# Altium integrated library Analog Devices Data Converters Analog-to-Digital Converters.IntLib: 2400 symbols (part 58 of 338)
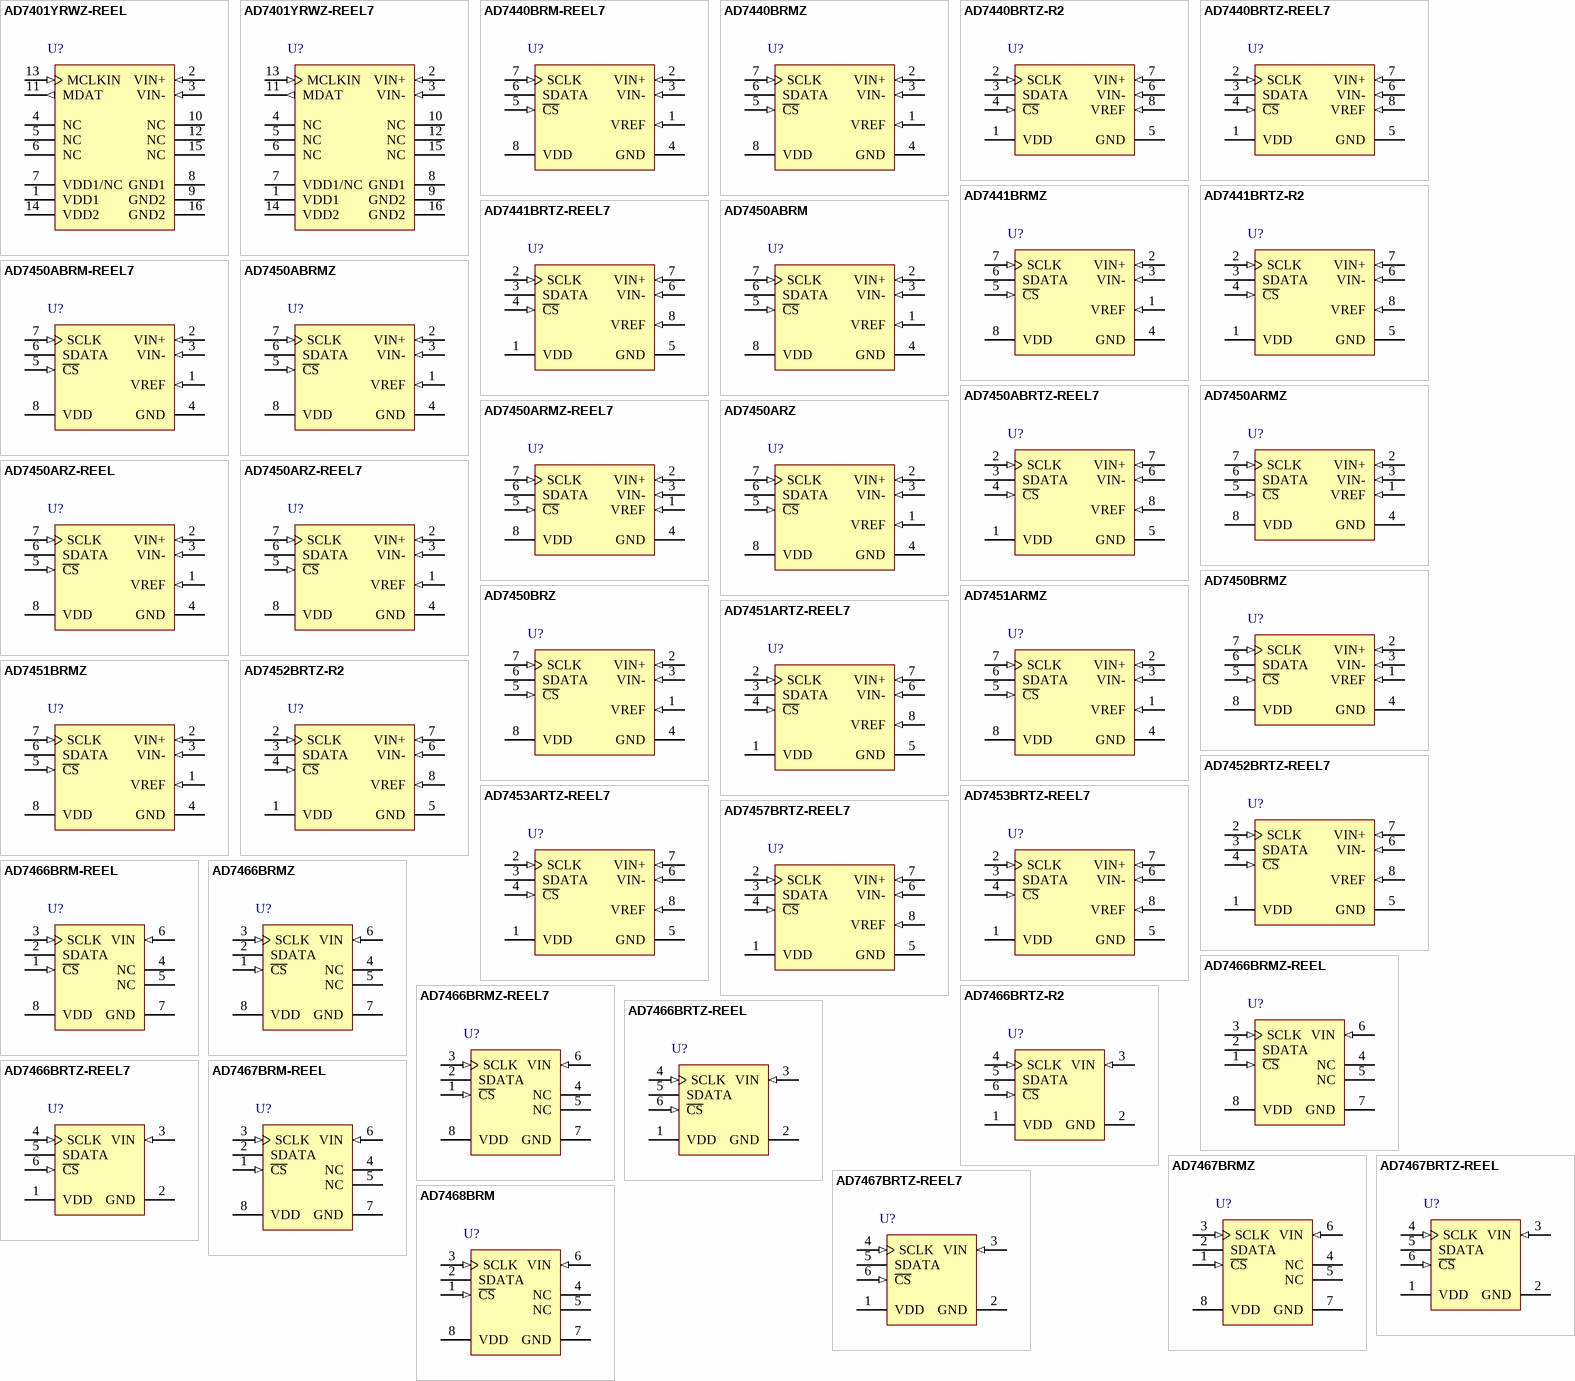
[diagram p188: symbols AD7401YRWZ-REEL to AD7468BRM]

## AD7450ABRMZ
designator U?
Single 12-Bit Analog-to-Digital Converter with Serial Interface, 1MSPS, -40 to +85 degC, RM-8, Pb-Free, Tube; Part Number: AD7450A; Manufacturer: Analog Devices; Resolution (Bits): 12; Channels: 1; Throughput Rate (SPS): 1M; Interface: Ser; DatasheetVersion: Rev.C; PackageVersion: Aug-2005; PackageReference: RM-8; PackageDescription: 8-Lead Mini Small Outline Package [MSOP]; RoHS: Y; Packing: Tube; Mounting Technology: Surface Mount; Code_JEDEC: MO-187-AA; ComponentLink1Description: Manufacturer URL; ComponentLink1URL: http://www.analog.com/en/index.html; ComponentLink2Description: Datasheet; ComponentLink2URL: http://www.analog.com/static/imported-files/data_sheets/AD7440_7450A.pdf; ComponentLink3Description: Package Specification; ComponentLink3URL: http://www.analog.com/static/imported-files/packages/PKG_PDF/MSOP%28RM%29/RM_8.pdf; ComponentLink4Description: Product URL; ComponentLink4URL: http://www.analog.com/en/analog-to-digital-converters/ad-converters/ad7450a/products/product.html
footprint RM-8_N (TSOP, 8-Leads, Body 3x3mm, Pitch 0.65mm, IPC Medium Density)
footprint RM-8_L (TSOP, 8-Leads, Body 3x3mm, Pitch 0.65mm, IPC High Density)
footprint RM-8_M (TSOP, 8-Leads, Body 3x3mm, Pitch 0.65mm, IPC Low Density)
pins: 1 VREF (in) "Reference Input for the AD7440/AD7450A. An external reference must be applied to this input. For a 5 V power supply, the reference is 2.5 V (+/-1%) for specified performance. For a 3 V power supply, the reference is 2 V (See Datasheet)", 2 VIN+ (in) "Positive Terminal for Differential Analog Input.", 3 VIN- (in) "Negative Terminal for Differential Analog Input.", 4 GND (power) "Analog Ground. Ground reference point for all circuitry on the AD7440/AD7450A. All analog input signals and any external reference signal should be referred to this GND voltage.", 5 ~{CS} (in) "Chip Select. Active low logic input. This input provides the dual function of initiating a conversion on the AD7440/AD7450A and framing the serial data transfer.", 6 SDATA (hiz) "Serial Data. Logic output. The conversion result from the AD7440/AD7450A is provided on this output as a serial data stream. The bits are clocked out on the falling edge of the SCLK input. The data stream of the AD7450A (See Datasheet)", 7 SCLK (in) "Serial Clock. Logic input. SCLK provides the serial clock for accessing data from the part. This clock input is also used as the clock source for the conversion process.", 8 VDD (power) "Power Supply Input. VDD is 3 V (+20%/-10%) or 5 V (+/-5%). This supply should be decoupled to GND with a 0.1 uF capacitor and a 10 uF tantalum capacitor in parallel."

## AD7450ABRTZ-REEL7
designator U?
Single 12-Bit Analog-to-Digital Converter with Serial Interface, 1MSPS, -40 to +85 degC, RJ-8, Pb-Free, Reel; Part Number: AD7450A; Manufacturer: Analog Devices; Resolution (Bits): 12; Channels: 1; Throughput Rate (SPS): 1M; Interface: Ser; DatasheetVersion: Rev.C; PackageVersion: 121608-A; PackageReference: RJ-8; PackageDescription: 8-Lead Thin Small Outline Transistor Package [SOT-23]; RoHS: Y; Packing: Reel; Mounting Technology: Surface Mount; Code_JEDEC: MO-178-BA; ComponentLink1Description: Manufacturer URL; ComponentLink1URL: http://www.analog.com/en/index.html; ComponentLink2Description: Datasheet; ComponentLink2URL: http://www.analog.com/static/imported-files/data_sheets/AD7440_7450A.pdf; ComponentLink3Description: Package Specification; ComponentLink3URL: http://www.analog.com/static/imported-files/packages/PKG_PDF/SOT-23(RJ)/RJ_8.pdf; ComponentLink4Description: Product URL; ComponentLink4URL: http://www.analog.com/en/analog-to-digital-converters/ad-converters/ad7450a/products/product.html
footprint RJ-8_N (SOP, 8-Leads, Body 2.9x1.6mm, Pitch 0.65mm, IPC Medium Density)
footprint RJ-8_L (SOP, 8-Leads, Body 2.9x1.6mm, Pitch 0.65mm, IPC High Density)
footprint RJ-8_M (SOP, 8-Leads, Body 2.9x1.6mm, Pitch 0.65mm, IPC Low Density)
pins: 1 VDD (power) "Power Supply Input. VDD is 3 V (+20%/-10%) or 5 V (+/-5%). This supply should be decoupled to GND with a 0.1 uF capacitor and a 10 uF tantalum capacitor in parallel.", 2 SCLK (in) "Serial Clock. Logic input. SCLK provides the serial clock for accessing data from the part. This clock input is also used as the clock source for the conversion process.", 3 SDATA (hiz) "Serial Data. Logic output. The conversion result from the AD7440/AD7450A is provided on this output as a serial data stream. The bits are clocked out on the falling edge of the SCLK input. The data stream of the AD7450A (See Datasheet)", 4 ~{CS} (in) "Chip Select. Active low logic input. This input provides the dual function of initiating a conversion on the AD7440/AD7450A and framing the serial data transfer.", 5 GND (power) "Analog Ground. Ground reference point for all circuitry on the AD7440/AD7450A. All analog input signals and any external reference signal should be referred to this GND voltage.", 6 VIN- (in) "Negative Terminal for Differential Analog Input.", 7 VIN+ (in) "Positive Terminal for Differential Analog Input.", 8 VREF (in) "Reference Input for the AD7440/AD7450A. An external reference must be applied to this input. For a 5 V power supply, the reference is 2.5 V (+/-1%) for specified performance. For a 3 V power supply, the reference is 2 V (See Datasheet)"

## AD7450ARMZ
designator U?
Single 12-Bit Analog-to-Digital Converter with Serial Interface, 1MSPS, -40 to +85 degC, RM-8, Pb-Free, Tube; Part Number: AD7450; Manufacturer: Analog Devices; Resolution (Bits): 12; Channels: 1; Throughput Rate (SPS): 1M; Interface: Ser; DatasheetVersion: Rev.A; PackageVersion: Aug-2005; PackageReference: RM-8; PackageDescription: 8-Lead Mini Small Outline Package [MSOP]; RoHS: Y; Packing: Tube; Mounting Technology: Surface Mount; Code_JEDEC: MO-187-AA; ComponentLink1Description: Manufacturer URL; ComponentLink1URL: http://www.analog.com/en/index.html; ComponentLink2Description: Datasheet; ComponentLink2URL: http://www.analog.com/static/imported-files/data_sheets/AD7450.pdf; ComponentLink3Description: Package Specification; ComponentLink3URL: http://www.analog.com/static/imported-files/packages/PKG_PDF/MSOP%28RM%29/RM_8.pdf; ComponentLink4Description: Product URL; ComponentLink4URL: http://www.analog.com/en/analog-to-digital-converters/ad-converters/ad7450/products/product.html
footprint RM-8_N (TSOP, 8-Leads, Body 3x3mm, Pitch 0.65mm, IPC Medium Density)
footprint RM-8_L (TSOP, 8-Leads, Body 3x3mm, Pitch 0.65mm, IPC High Density)
footprint RM-8_M (TSOP, 8-Leads, Body 3x3mm, Pitch 0.65mm, IPC Low Density)
pins: 1 VREF (in) "Reference Input for the AD7450. An external reference must be applied to this input. For a 5 V power supply, the reference is 2.5 V (+/-1%), and for a 3 V power supply, the reference is 1.25 V (+/-1%) for specified (See Datasheet)", 2 VIN+ (in) "Positive Terminal for Differential Analog Input", 3 VIN- (in) "Negative Terminal for Differential Analog Input", 4 GND (power) "Analog Ground. Ground reference point for all circuitry on the AD7450. All analog input signals and any external reference signal should be referred to this GND voltage.", 5 ~{CS} (in) "Chip Select. Active low logic input. This input provides the dual function of initiating a conversion on the AD7450 and framing the serial data transfer.", 6 SDATA (hiz) "Serial Data. Logic output. The conversion result from the AD7450 is provided on this output as a serial data stream. The bits are clocked out on the falling edge of the SCLK input. The data stream consists of four leading (See Datasheet)", 7 SCLK (in) "Serial Clock. Logic input. SCLK provides the serial clock for accessing data from the part.This clock input is also used as the clock source for the AD7450’s conversion process.", 8 VDD (power) "Power Supply Input. VDD is 3 V (+/-10%) or 5 V (+/-5%). This supply should be decoupled to GND with a 0.1 uF capacitor and a 10 uF tantalum capacitor."

## AD7450ARMZ-REEL7
designator U?
Single 12-Bit Analog-to-Digital Converter with Serial Interface, 1MSPS, -40 to +85 degC, RM-8, Pb-Free, Reel; Part Number: AD7450; Manufacturer: Analog Devices; Resolution (Bits): 12; Channels: 1; Throughput Rate (SPS): 1M; Interface: Ser; DatasheetVersion: Rev.A; PackageVersion: Aug-2005; PackageReference: RM-8; PackageDescription: 8-Lead Mini Small Outline Package [MSOP]; RoHS: Y; Packing: Reel; Mounting Technology: Surface Mount; Code_JEDEC: MO-187-AA; ComponentLink1Description: Manufacturer URL; ComponentLink1URL: http://www.analog.com/en/index.html; ComponentLink2Description: Datasheet; ComponentLink2URL: http://www.analog.com/static/imported-files/data_sheets/AD7450.pdf; ComponentLink3Description: Package Specification; ComponentLink3URL: http://www.analog.com/static/imported-files/packages/PKG_PDF/MSOP%28RM%29/RM_8.pdf; ComponentLink4Description: Product URL; ComponentLink4URL: http://www.analog.com/en/analog-to-digital-converters/ad-converters/ad7450/products/product.html
footprint RM-8_N (TSOP, 8-Leads, Body 3x3mm, Pitch 0.65mm, IPC Medium Density)
footprint RM-8_L (TSOP, 8-Leads, Body 3x3mm, Pitch 0.65mm, IPC High Density)
footprint RM-8_M (TSOP, 8-Leads, Body 3x3mm, Pitch 0.65mm, IPC Low Density)
pins: 1 VREF (in) "Reference Input for the AD7450. An external reference must be applied to this input. For a 5 V power supply, the reference is 2.5 V (+/-1%), and for a 3 V power supply, the reference is 1.25 V (+/-1%) for specified (See Datasheet)", 2 VIN+ (in) "Positive Terminal for Differential Analog Input", 3 VIN- (in) "Negative Terminal for Differential Analog Input", 4 GND (power) "Analog Ground. Ground reference point for all circuitry on the AD7450. All analog input signals and any external reference signal should be referred to this GND voltage.", 5 ~{CS} (in) "Chip Select. Active low logic input. This input provides the dual function of initiating a conversion on the AD7450 and framing the serial data transfer.", 6 SDATA (hiz) "Serial Data. Logic output. The conversion result from the AD7450 is provided on this output as a serial data stream. The bits are clocked out on the falling edge of the SCLK input. The data stream consists of four leading (See Datasheet)", 7 SCLK (in) "Serial Clock. Logic input. SCLK provides the serial clock for accessing data from the part.This clock input is also used as the clock source for the AD7450’s conversion process.", 8 VDD (power) "Power Supply Input. VDD is 3 V (+/-10%) or 5 V (+/-5%). This supply should be decoupled to GND with a 0.1 uF capacitor and a 10 uF tantalum capacitor."

## AD7450ARZ
designator U?
Single 12-Bit Analog-to-Digital Converter with Serial Interface, 1MSPS, -40 to +85 degC, R-8, Pb-Free, Tube; Part Number: AD7450; Manufacturer: Analog Devices; Resolution (Bits): 12; Channels: 1; Throughput Rate (SPS): 1M; Interface: Ser; DatasheetVersion: Rev.A; PackageVersion: 060506-A; PackageReference: R-8; PackageDescription: 8-Lead Standard Small Outline Package [SOIC_N] Narrow Body; RoHS: Y; Packing: Tube; Mounting Technology: Surface Mount; Code_JEDEC: MS-012-AA; Code_IPC: SOIC127P600-8; ComponentLink1Description: Manufacturer URL; ComponentLink1URL: http://www.analog.com/en/index.html; ComponentLink2Description: Datasheet; ComponentLink2URL: http://www.analog.com/static/imported-files/data_sheets/AD7450.pdf; ComponentLink3Description: Package Specification; ComponentLink3URL: http://www.analog.com/static/imported-files/packages/PKG_PDF/SOIC_Narrow%20(R)/R_8.pdf; ComponentLink4Description: Product URL; ComponentLink4URL: http://www.analog.com/en/analog-to-digital-converters/ad-converters/ad7450/products/product.html
footprint R-8_N (SOIC, 8-Leads, Body 4.9x3.9mm, Pitch 1.27mm, IPC Medium Density)
footprint R-8_L (SOIC, 8-Leads, Body 4.9x3.9mm, Pitch 1.27mm, IPC High Density)
footprint R-8_M (SOIC, 8-Leads, Body 4.9x3.9mm, Pitch 1.27mm, IPC Low Density)
pins: 1 VREF (in) "Reference Input for the AD7450. An external reference must be applied to this input. For a 5 V power supply, the reference is 2.5 V (+/-1%), and for a 3 V power supply, the reference is 1.25 V (+/-1%) for specified (See Datasheet)", 2 VIN+ (in) "Positive Terminal for Differential Analog Input", 3 VIN- (in) "Negative Terminal for Differential Analog Input", 4 GND (power) "Analog Ground. Ground reference point for all circuitry on the AD7450. All analog input signals and any external reference signal should be referred to this GND voltage.", 5 ~{CS} (in) "Chip Select. Active low logic input. This input provides the dual function of initiating a conversion on the AD7450 and framing the serial data transfer.", 6 SDATA (hiz) "Serial Data. Logic output. The conversion result from the AD7450 is provided on this output as a serial data stream. The bits are clocked out on the falling edge of the SCLK input. The data stream consists of four leading (See Datasheet)", 7 SCLK (in) "Serial Clock. Logic input. SCLK provides the serial clock for accessing data from the part.This clock input is also used as the clock source for the AD7450's conversion process.", 8 VDD (power) "Power Supply Input. VDD is 3 V (+/-10%) or 5 V (+/-5%). This supply should be decoupled to GND with a 0.1 uF capacitor and a 10 uF tantalum capacitor."

## AD7450ARZ-REEL
designator U?
Single 12-Bit Analog-to-Digital Converter with Serial Interface, 1MSPS, -40 to +85 degC, R-8, Pb-Free, Reel; Part Number: AD7450; Manufacturer: Analog Devices; Resolution (Bits): 12; Channels: 1; Throughput Rate (SPS): 1M; Interface: Ser; DatasheetVersion: Rev.A; PackageVersion: 060506-A; PackageReference: R-8; PackageDescription: 8-Lead Standard Small Outline Package [SOIC_N] Narrow Body; RoHS: Y; Packing: Reel; Mounting Technology: Surface Mount; Code_JEDEC: MS-012-AA; Code_IPC: SOIC127P600-8; ComponentLink1Description: Manufacturer URL; ComponentLink1URL: http://www.analog.com/en/index.html; ComponentLink2Description: Datasheet; ComponentLink2URL: http://www.analog.com/static/imported-files/data_sheets/AD7450.pdf; ComponentLink3Description: Package Specification; ComponentLink3URL: http://www.analog.com/static/imported-files/packages/PKG_PDF/SOIC_Narrow%20(R)/R_8.pdf; ComponentLink4Description: Product URL; ComponentLink4URL: http://www.analog.com/en/analog-to-digital-converters/ad-converters/ad7450/products/product.html
footprint R-8_N (SOIC, 8-Leads, Body 4.9x3.9mm, Pitch 1.27mm, IPC Medium Density)
footprint R-8_L (SOIC, 8-Leads, Body 4.9x3.9mm, Pitch 1.27mm, IPC High Density)
footprint R-8_M (SOIC, 8-Leads, Body 4.9x3.9mm, Pitch 1.27mm, IPC Low Density)
pins: 1 VREF (in) "Reference Input for the AD7450. An external reference must be applied to this input. For a 5 V power supply, the reference is 2.5 V (+/-1%), and for a 3 V power supply, the reference is 1.25 V (+/-1%) for specified (See Datasheet)", 2 VIN+ (in) "Positive Terminal for Differential Analog Input", 3 VIN- (in) "Negative Terminal for Differential Analog Input", 4 GND (power) "Analog Ground. Ground reference point for all circuitry on the AD7450. All analog input signals and any external reference signal should be referred to this GND voltage.", 5 ~{CS} (in) "Chip Select. Active low logic input. This input provides the dual function of initiating a conversion on the AD7450 and framing the serial data transfer.", 6 SDATA (hiz) "Serial Data. Logic output. The conversion result from the AD7450 is provided on this output as a serial data stream. The bits are clocked out on the falling edge of the SCLK input. The data stream consists of four leading (See Datasheet)", 7 SCLK (in) "Serial Clock. Logic input. SCLK provides the serial clock for accessing data from the part.This clock input is also used as the clock source for the AD7450's conversion process.", 8 VDD (power) "Power Supply Input. VDD is 3 V (+/-10%) or 5 V (+/-5%). This supply should be decoupled to GND with a 0.1 uF capacitor and a 10 uF tantalum capacitor."

## AD7450ARZ-REEL7
designator U?
Single 12-Bit Analog-to-Digital Converter with Serial Interface, 1MSPS, -40 to +85 degC, R-8, Pb-Free, Reel; Part Number: AD7450; Manufacturer: Analog Devices; Resolution (Bits): 12; Channels: 1; Throughput Rate (SPS): 1M; Interface: Ser; DatasheetVersion: Rev.A; PackageVersion: 060506-A; PackageReference: R-8; PackageDescription: 8-Lead Standard Small Outline Package [SOIC_N] Narrow Body; RoHS: Y; Packing: Reel; Mounting Technology: Surface Mount; Code_JEDEC: MS-012-AA; Code_IPC: SOIC127P600-8; ComponentLink1Description: Manufacturer URL; ComponentLink1URL: http://www.analog.com/en/index.html; ComponentLink2Description: Datasheet; ComponentLink2URL: http://www.analog.com/static/imported-files/data_sheets/AD7450.pdf; ComponentLink3Description: Package Specification; ComponentLink3URL: http://www.analog.com/static/imported-files/packages/PKG_PDF/SOIC_Narrow%20(R)/R_8.pdf; ComponentLink4Description: Product URL; ComponentLink4URL: http://www.analog.com/en/analog-to-digital-converters/ad-converters/ad7450/products/product.html
footprint R-8_N (SOIC, 8-Leads, Body 4.9x3.9mm, Pitch 1.27mm, IPC Medium Density)
footprint R-8_L (SOIC, 8-Leads, Body 4.9x3.9mm, Pitch 1.27mm, IPC High Density)
footprint R-8_M (SOIC, 8-Leads, Body 4.9x3.9mm, Pitch 1.27mm, IPC Low Density)
pins: 1 VREF (in) "Reference Input for the AD7450. An external reference must be applied to this input. For a 5 V power supply, the reference is 2.5 V (+/-1%), and for a 3 V power supply, the reference is 1.25 V (+/-1%) for specified (See Datasheet)", 2 VIN+ (in) "Positive Terminal for Differential Analog Input", 3 VIN- (in) "Negative Terminal for Differential Analog Input", 4 GND (power) "Analog Ground. Ground reference point for all circuitry on the AD7450. All analog input signals and any external reference signal should be referred to this GND voltage.", 5 ~{CS} (in) "Chip Select. Active low logic input. This input provides the dual function of initiating a conversion on the AD7450 and framing the serial data transfer.", 6 SDATA (hiz) "Serial Data. Logic output. The conversion result from the AD7450 is provided on this output as a serial data stream. The bits are clocked out on the falling edge of the SCLK input. The data stream consists of four leading (See Datasheet)", 7 SCLK (in) "Serial Clock. Logic input. SCLK provides the serial clock for accessing data from the part.This clock input is also used as the clock source for the AD7450's conversion process.", 8 VDD (power) "Power Supply Input. VDD is 3 V (+/-10%) or 5 V (+/-5%). This supply should be decoupled to GND with a 0.1 uF capacitor and a 10 uF tantalum capacitor."

## AD7450BRMZ
designator U?
Single 12-Bit Analog-to-Digital Converter with Serial Interface, 1MSPS, -40 to +85 degC, RM-8, Pb-Free, Tube; Part Number: AD7450; Manufacturer: Analog Devices; Resolution (Bits): 12; Channels: 1; Throughput Rate (SPS): 1M; Interface: Ser; DatasheetVersion: Rev.A; PackageVersion: Aug-2005; PackageReference: RM-8; PackageDescription: 8-Lead Mini Small Outline Package [MSOP]; RoHS: Y; Packing: Tube; Mounting Technology: Surface Mount; Code_JEDEC: MO-187-AA; ComponentLink1Description: Manufacturer URL; ComponentLink1URL: http://www.analog.com/en/index.html; ComponentLink2Description: Datasheet; ComponentLink2URL: http://www.analog.com/static/imported-files/data_sheets/AD7450.pdf; ComponentLink3Description: Package Specification; ComponentLink3URL: http://www.analog.com/static/imported-files/packages/PKG_PDF/MSOP%28RM%29/RM_8.pdf; ComponentLink4Description: Product URL; ComponentLink4URL: http://www.analog.com/en/analog-to-digital-converters/ad-converters/ad7450/products/product.html
footprint RM-8_N (TSOP, 8-Leads, Body 3x3mm, Pitch 0.65mm, IPC Medium Density)
footprint RM-8_L (TSOP, 8-Leads, Body 3x3mm, Pitch 0.65mm, IPC High Density)
footprint RM-8_M (TSOP, 8-Leads, Body 3x3mm, Pitch 0.65mm, IPC Low Density)
pins: 1 VREF (in) "Reference Input for the AD7450. An external reference must be applied to this input. For a 5 V power supply, the reference is 2.5 V (+/-1%), and for a 3 V power supply, the reference is 1.25 V (+/-1%) for specified (See Datasheet)", 2 VIN+ (in) "Positive Terminal for Differential Analog Input", 3 VIN- (in) "Negative Terminal for Differential Analog Input", 4 GND (power) "Analog Ground. Ground reference point for all circuitry on the AD7450. All analog input signals and any external reference signal should be referred to this GND voltage.", 5 ~{CS} (in) "Chip Select. Active low logic input. This input provides the dual function of initiating a conversion on the AD7450 and framing the serial data transfer.", 6 SDATA (hiz) "Serial Data. Logic output. The conversion result from the AD7450 is provided on this output as a serial data stream. The bits are clocked out on the falling edge of the SCLK input. The data stream consists of four leading (See Datasheet)", 7 SCLK (in) "Serial Clock. Logic input. SCLK provides the serial clock for accessing data from the part.This clock input is also used as the clock source for the AD7450’s conversion process.", 8 VDD (power) "Power Supply Input. VDD is 3 V (+/-10%) or 5 V (+/-5%). This supply should be decoupled to GND with a 0.1 uF capacitor and a 10 uF tantalum capacitor."

## AD7450BRZ
designator U?
Single 12-Bit Analog-to-Digital Converter with Serial Interface, 1MSPS, -40 to +85 degC, R-8, Pb-Free, Tube; Part Number: AD7450; Manufacturer: Analog Devices; Resolution (Bits): 12; Channels: 1; Throughput Rate (SPS): 1M; Interface: Ser; DatasheetVersion: Rev.A; PackageVersion: 060506-A; PackageReference: R-8; PackageDescription: 8-Lead Standard Small Outline Package [SOIC_N] Narrow Body; RoHS: Y; Packing: Tube; Mounting Technology: Surface Mount; Code_JEDEC: MS-012-AA; Code_IPC: SOIC127P600-8; ComponentLink1Description: Manufacturer URL; ComponentLink1URL: http://www.analog.com/en/index.html; ComponentLink2Description: Datasheet; ComponentLink2URL: http://www.analog.com/static/imported-files/data_sheets/AD7450.pdf; ComponentLink3Description: Package Specification; ComponentLink3URL: http://www.analog.com/static/imported-files/packages/PKG_PDF/SOIC_Narrow%20(R)/R_8.pdf; ComponentLink4Description: Product URL; ComponentLink4URL: http://www.analog.com/en/analog-to-digital-converters/ad-converters/ad7450/products/product.html
footprint R-8_N (SOIC, 8-Leads, Body 4.9x3.9mm, Pitch 1.27mm, IPC Medium Density)
footprint R-8_L (SOIC, 8-Leads, Body 4.9x3.9mm, Pitch 1.27mm, IPC High Density)
footprint R-8_M (SOIC, 8-Leads, Body 4.9x3.9mm, Pitch 1.27mm, IPC Low Density)
pins: 1 VREF (in) "Reference Input for the AD7450. An external reference must be applied to this input. For a 5 V power supply, the reference is 2.5 V (+/-1%), and for a 3 V power supply, the reference is 1.25 V (+/-1%) for specified (See Datasheet)", 2 VIN+ (in) "Positive Terminal for Differential Analog Input", 3 VIN- (in) "Negative Terminal for Differential Analog Input", 4 GND (power) "Analog Ground. Ground reference point for all circuitry on the AD7450. All analog input signals and any external reference signal should be referred to this GND voltage.", 5 ~{CS} (in) "Chip Select. Active low logic input. This input provides the dual function of initiating a conversion on the AD7450 and framing the serial data transfer.", 6 SDATA (hiz) "Serial Data. Logic output. The conversion result from the AD7450 is provided on this output as a serial data stream. The bits are clocked out on the falling edge of the SCLK input. The data stream consists of four leading (See Datasheet)", 7 SCLK (in) "Serial Clock. Logic input. SCLK provides the serial clock for accessing data from the part.This clock input is also used as the clock source for the AD7450's conversion process.", 8 VDD (power) "Power Supply Input. VDD is 3 V (+/-10%) or 5 V (+/-5%). This supply should be decoupled to GND with a 0.1 uF capacitor and a 10 uF tantalum capacitor."

## AD7451ARMZ
designator U?
Single 12-Bit Analog-to-Digital Converter with Serial, SPI Interface, 1MSPS, -40 to +85 degC, RM-8, Pb-Free, Tube; Part Number: AD7451; Manufacturer: Analog Devices; Resolution (Bits): 12; Channels: 1; Throughput Rate (SPS): 1M; Interface: Ser, SPI; DatasheetVersion: Rev.D; PackageVersion: Aug-2005; PackageReference: RM-8; PackageDescription: 8-Lead Mini Small Outline Package [MSOP]; RoHS: Y; Packing: Tube; Mounting Technology: Surface Mount; Code_JEDEC: MO-187-AA; ComponentLink1Description: Manufacturer URL; ComponentLink1URL: http://www.analog.com/en/index.html; ComponentLink2Description: Datasheet; ComponentLink2URL: http://www.analog.com/static/imported-files/data_sheets/AD7441_7451.pdf; ComponentLink3Description: Package Specification; ComponentLink3URL: http://www.analog.com/static/imported-files/packages/PKG_PDF/MSOP%28RM%29/RM_8.pdf; ComponentLink4Description: Product URL; ComponentLink4URL: http://www.analog.com/en/analog-to-digital-converters/ad-converters/ad7451/products/product.html
footprint RM-8_N (TSOP, 8-Leads, Body 3x3mm, Pitch 0.65mm, IPC Medium Density)
footprint RM-8_L (TSOP, 8-Leads, Body 3x3mm, Pitch 0.65mm, IPC High Density)
footprint RM-8_M (TSOP, 8-Leads, Body 3x3mm, Pitch 0.65mm, IPC Low Density)
pins: 1 VREF (in) "Reference Input for the AD7441/AD7451. An external reference in the range of 100 mV to VDD must be applied to this input. The specified reference input is 2.5 V. This pin is decoupled to GND with a capacitor of at least 0.1 (See Datasheet)", 2 VIN+ (in) "Noninverting Analog Input.", 3 VIN- (in) "Inverting Input. This pin sets the ground reference point for the VIN+ input. Connect to ground or to a dc offset to provide a pseudo ground.", 4 GND (power) "Analog Ground. Ground reference point for all circuitry on the AD7441/AD7451. All analog input signals and any external reference signal are referred to this GND voltage.", 5 ~{CS} (in) "Chip Select. Active low logic input. This input provides the dual function of initiating a conversion on the AD7441/AD7451 and framing the serial data transfer.", 6 SDATA (hiz) "Serial Data, Logic Output. The conversion result from the AD7441/AD7451 is provided on this output as a serial data stream. The bits are clocked out on the falling edge of the SCLK input. The data stream of the AD7451 (See Datasheet)", 7 SCLK (in) "Serial Clock, Logic Input. SCLK provides the serial clock for accessing data from the part. This clock input is also used as the clock source for the conversion process.", 8 VDD (power) "Power Supply Input. VDD is 2.7 V to 5.25 V. This supply is decoupled to GND with a 0.1 uF capacitor and a 10 uF tantalum capacitor."

## AD7451ARTZ-REEL7
designator U?
Single 12-Bit Analog-to-Digital Converter with Serial, SPI Interface, 1MSPS, -40 to +85 degC, RJ-8, Pb-Free, Reel; Part Number: AD7451; Manufacturer: Analog Devices; Resolution (Bits): 12; Channels: 1; Throughput Rate (SPS): 1M; Interface: Ser, SPI; DatasheetVersion: Rev.D; PackageVersion: 121608-A; PackageReference: RJ-8; PackageDescription: 8-Lead Thin Small Outline Transistor Package [SOT-23]; RoHS: Y; Packing: Reel; Mounting Technology: Surface Mount; Code_JEDEC: MO-178-BA; ComponentLink1Description: Manufacturer URL; ComponentLink1URL: http://www.analog.com/en/index.html; ComponentLink2Description: Datasheet; ComponentLink2URL: http://www.analog.com/static/imported-files/data_sheets/AD7441_7451.pdf; ComponentLink3Description: Package Specification; ComponentLink3URL: http://www.analog.com/static/imported-files/packages/PKG_PDF/SOT-23(RJ)/RJ_8.pdf; ComponentLink4Description: Product URL; ComponentLink4URL: http://www.analog.com/en/analog-to-digital-converters/ad-converters/ad7451/products/product.html
footprint RJ-8_N (SOP, 8-Leads, Body 2.9x1.6mm, Pitch 0.65mm, IPC Medium Density)
footprint RJ-8_L (SOP, 8-Leads, Body 2.9x1.6mm, Pitch 0.65mm, IPC High Density)
footprint RJ-8_M (SOP, 8-Leads, Body 2.9x1.6mm, Pitch 0.65mm, IPC Low Density)
pins: 1 VDD (power) "Power Supply Input. VDD is 2.7 V to 5.25 V. This supply is decoupled to GND with a 0.1 uF capacitor and a 10 uF tantalum capacitor.", 2 SCLK (in) "Serial Clock, Logic Input. SCLK provides the serial clock for accessing data from the part. This clock input is also used as the clock source for the conversion process.", 3 SDATA (hiz) "Serial Data, Logic Output. The conversion result from the AD7441/AD7451 is provided on this output as a serial data stream. The bits are clocked out on the falling edge of the SCLK input. The data stream of the AD7451 (See Datasheet)", 4 ~{CS} (in) "Chip Select. Active low logic input. This input provides the dual function of initiating a conversion on the AD7441/AD7451 and framing the serial data transfer.", 5 GND (power) "Analog Ground. Ground reference point for all circuitry on the AD7441/AD7451. All analog input signals and any external reference signal are referred to this GND voltage.", 6 VIN- (in) "Inverting Input. This pin sets the ground reference point for the VIN+ input. Connect to ground or to a dc offset to provide a pseudo ground.", 7 VIN+ (in) "Noninverting Analog Input.", 8 VREF (in) "Reference Input for the AD7441/AD7451. An external reference in the range of 100 mV to VDD must be applied to this input. The specified reference input is 2.5 V. This pin is decoupled to GND with a capacitor of at least 0.1 (See Datasheet)"

## AD7451BRMZ
designator U?
Single 12-Bit Analog-to-Digital Converter with Serial, SPI Interface, 1MSPS, -40 to +85 degC, RM-8, Pb-Free, Tube; Part Number: AD7451; Manufacturer: Analog Devices; Resolution (Bits): 12; Channels: 1; Throughput Rate (SPS): 1M; Interface: Ser, SPI; DatasheetVersion: Rev.D; PackageVersion: Aug-2005; PackageReference: RM-8; PackageDescription: 8-Lead Mini Small Outline Package [MSOP]; RoHS: Y; Packing: Tube; Mounting Technology: Surface Mount; Code_JEDEC: MO-187-AA; ComponentLink1Description: Manufacturer URL; ComponentLink1URL: http://www.analog.com/en/index.html; ComponentLink2Description: Datasheet; ComponentLink2URL: http://www.analog.com/static/imported-files/data_sheets/AD7441_7451.pdf; ComponentLink3Description: Package Specification; ComponentLink3URL: http://www.analog.com/static/imported-files/packages/PKG_PDF/MSOP%28RM%29/RM_8.pdf; ComponentLink4Description: Product URL; ComponentLink4URL: http://www.analog.com/en/analog-to-digital-converters/ad-converters/ad7451/products/product.html
footprint RM-8_N (TSOP, 8-Leads, Body 3x3mm, Pitch 0.65mm, IPC Medium Density)
footprint RM-8_L (TSOP, 8-Leads, Body 3x3mm, Pitch 0.65mm, IPC High Density)
footprint RM-8_M (TSOP, 8-Leads, Body 3x3mm, Pitch 0.65mm, IPC Low Density)
pins: 1 VREF (in) "Reference Input for the AD7441/AD7451. An external reference in the range of 100 mV to VDD must be applied to this input. The specified reference input is 2.5 V. This pin is decoupled to GND with a capacitor of at least 0.1 (See Datasheet)", 2 VIN+ (in) "Noninverting Analog Input.", 3 VIN- (in) "Inverting Input. This pin sets the ground reference point for the VIN+ input. Connect to ground or to a dc offset to provide a pseudo ground.", 4 GND (power) "Analog Ground. Ground reference point for all circuitry on the AD7441/AD7451. All analog input signals and any external reference signal are referred to this GND voltage.", 5 ~{CS} (in) "Chip Select. Active low logic input. This input provides the dual function of initiating a conversion on the AD7441/AD7451 and framing the serial data transfer.", 6 SDATA (hiz) "Serial Data, Logic Output. The conversion result from the AD7441/AD7451 is provided on this output as a serial data stream. The bits are clocked out on the falling edge of the SCLK input. The data stream of the AD7451 (See Datasheet)", 7 SCLK (in) "Serial Clock, Logic Input. SCLK provides the serial clock for accessing data from the part. This clock input is also used as the clock source for the conversion process.", 8 VDD (power) "Power Supply Input. VDD is 2.7 V to 5.25 V. This supply is decoupled to GND with a 0.1 uF capacitor and a 10 uF tantalum capacitor."

## AD7452BRTZ-R2
designator U?
Single 12-Bit Analog-to-Digital Converter with Serial, SPI Interface, 555KSPS, -40 to +85 degC, RJ-8, Pb-Free, Reel; Part Number: AD7452; Manufacturer: Analog Devices; Resolution (Bits): 12; Channels: 1; Throughput Rate (SPS): 555K; Interface: Ser, SPI; DatasheetVersion: Rev.B; PackageVersion: 121608-A; PackageReference: RJ-8; PackageDescription: 8-Lead Thin Small Outline Transistor Package [SOT-23]; RoHS: Y; Packing: Reel; Mounting Technology: Surface Mount; Code_JEDEC: MO-178-BA; ComponentLink1Description: Manufacturer URL; ComponentLink1URL: http://www.analog.com/en/index.html; ComponentLink2Description: Datasheet; ComponentLink2URL: http://www.analog.com/static/imported-files/data_sheets/AD7452.pdf; ComponentLink3Description: Package Specification; ComponentLink3URL: http://www.analog.com/static/imported-files/packages/PKG_PDF/SOT-23(RJ)/RJ_8.pdf; ComponentLink4Description: Product URL; ComponentLink4URL: http://www.analog.com/en/analog-to-digital-converters/ad-converters/ad7452/products/product.html
footprint RJ-8_N (SOP, 8-Leads, Body 2.9x1.6mm, Pitch 0.65mm, IPC Medium Density)
footprint RJ-8_L (SOP, 8-Leads, Body 2.9x1.6mm, Pitch 0.65mm, IPC High Density)
footprint RJ-8_M (SOP, 8-Leads, Body 2.9x1.6mm, Pitch 0.65mm, IPC Low Density)
pins: 1 VDD (power) "Power Supply Input. VDD is 3 V (+20%/-10%) or 5 V (+/- 5%). This supply should be decoupled to GND with a 0.1 uF capacitor and a 10 uF tantalum capacitor in parallel.", 2 SCLK (in) "Serial Clock. Logic input. SCLK provides the serial clock for accessing data from the part. This clock input is also used as the clock source for the conversion process.", 3 SDATA (hiz) "Serial Data. Logic output. The conversion result from the AD7452 is provided on this output as a serial data stream. The bits are clocked out on the falling edge of the SCLK input. The data stream consists of four leading (See Datasheet)", 4 ~{CS} (in) "Chip Select. Active low logic input. This input provides the dual function of initiating a conversion on the AD7452 and framing the serial data transfer.", 5 GND (power) "Analog Ground. Ground reference point for all circuitry on the AD7452. All analog input signals and any external reference signal should be referred to this GND voltage.", 6 VIN- (in) "Negative Terminal for Differential Analog Input.", 7 VIN+ (in) "Positive Terminal for Differential Analog Input.", 8 VREF (in) "Reference Input for the AD7452. An external reference must be applied to this input. For a 5 V power supply, the reference is 2.5 V (+/- 1%) for specified performance. For a 3 V power supply, the reference is 2 V (+/- 1%) (See Datasheet)"

## AD7452BRTZ-REEL7
designator U?
Single 12-Bit Analog-to-Digital Converter with Serial, SPI Interface, 555KSPS, -40 to +85 degC, RJ-8, Pb-Free, Reel; Part Number: AD7452; Manufacturer: Analog Devices; Resolution (Bits): 12; Channels: 1; Throughput Rate (SPS): 555K; Interface: Ser, SPI; DatasheetVersion: Rev.B; PackageVersion: 121608-A; PackageReference: RJ-8; PackageDescription: 8-Lead Thin Small Outline Transistor Package [SOT-23]; RoHS: Y; Packing: Reel; Mounting Technology: Surface Mount; Code_JEDEC: MO-178-BA; ComponentLink1Description: Manufacturer URL; ComponentLink1URL: http://www.analog.com/en/index.html; ComponentLink2Description: Datasheet; ComponentLink2URL: http://www.analog.com/static/imported-files/data_sheets/AD7452.pdf; ComponentLink3Description: Package Specification; ComponentLink3URL: http://www.analog.com/static/imported-files/packages/PKG_PDF/SOT-23(RJ)/RJ_8.pdf; ComponentLink4Description: Product URL; ComponentLink4URL: http://www.analog.com/en/analog-to-digital-converters/ad-converters/ad7452/products/product.html
footprint RJ-8_N (SOP, 8-Leads, Body 2.9x1.6mm, Pitch 0.65mm, IPC Medium Density)
footprint RJ-8_L (SOP, 8-Leads, Body 2.9x1.6mm, Pitch 0.65mm, IPC High Density)
footprint RJ-8_M (SOP, 8-Leads, Body 2.9x1.6mm, Pitch 0.65mm, IPC Low Density)
pins: 1 VDD (power) "Power Supply Input. VDD is 3 V (+20%/-10%) or 5 V (+/- 5%). This supply should be decoupled to GND with a 0.1 uF capacitor and a 10 uF tantalum capacitor in parallel.", 2 SCLK (in) "Serial Clock. Logic input. SCLK provides the serial clock for accessing data from the part. This clock input is also used as the clock source for the conversion process.", 3 SDATA (hiz) "Serial Data. Logic output. The conversion result from the AD7452 is provided on this output as a serial data stream. The bits are clocked out on the falling edge of the SCLK input. The data stream consists of four leading (See Datasheet)", 4 ~{CS} (in) "Chip Select. Active low logic input. This input provides the dual function of initiating a conversion on the AD7452 and framing the serial data transfer.", 5 GND (power) "Analog Ground. Ground reference point for all circuitry on the AD7452. All analog input signals and any external reference signal should be referred to this GND voltage.", 6 VIN- (in) "Negative Terminal for Differential Analog Input.", 7 VIN+ (in) "Positive Terminal for Differential Analog Input.", 8 VREF (in) "Reference Input for the AD7452. An external reference must be applied to this input. For a 5 V power supply, the reference is 2.5 V (+/- 1%) for specified performance. For a 3 V power supply, the reference is 2 V (+/- 1%) (See Datasheet)"

## AD7453ARTZ-REEL7
designator U?
Single 12-Bit Analog-to-Digital Converter with Serial, SPI Interface, 555KSPS, -40 to +85 degC, RJ-8, Pb-Free, Reel; Part Number: AD7453; Manufacturer: Analog Devices; Resolution (Bits): 12; Channels: 1; Throughput Rate (SPS): 555K; Interface: Ser, SPI; DatasheetVersion: Rev.B; PackageVersion: 121608-A; PackageReference: RJ-8; PackageDescription: 8-Lead Thin Small Outline Transistor Package [SOT-23]; RoHS: Y; Packing: Reel; Mounting Technology: Surface Mount; Code_JEDEC: MO-178-BA; ComponentLink1Description: Manufacturer URL; ComponentLink1URL: http://www.analog.com/en/index.html; ComponentLink2Description: Datasheet; ComponentLink2URL: http://www.analog.com/static/imported-files/data_sheets/AD7453.pdf; ComponentLink3Description: Package Specification; ComponentLink3URL: http://www.analog.com/static/imported-files/packages/PKG_PDF/SOT-23(RJ)/RJ_8.pdf; ComponentLink4Description: Product URL; ComponentLink4URL: http://www.analog.com/en/analog-to-digital-converters/ad-converters/ad7453/products/product.html
footprint RJ-8_N (SOP, 8-Leads, Body 2.9x1.6mm, Pitch 0.65mm, IPC Medium Density)
footprint RJ-8_L (SOP, 8-Leads, Body 2.9x1.6mm, Pitch 0.65mm, IPC High Density)
footprint RJ-8_M (SOP, 8-Leads, Body 2.9x1.6mm, Pitch 0.65mm, IPC Low Density)
pins: 1 VDD (power) "Power Supply Input. VDD is 2.7 V to 5.25 V. This supply should be decoupled to GND with a 0.1 uF capacitor and a 10 uF tantalum capacitor.", 2 SCLK (in) "Serial Clock. Logic input. SCLK provides the serial clock for accessing data from the part. This clock input is also used as the clock source for the conversion process.", 3 SDATA (hiz) "Serial Data. Logic output. The conversion result from the AD7453 is provided on this output as a serial data stream. The bits are clocked out on the falling edge of the SCLK input. The data stream of the AD7453 consists of (See Datasheet)", 4 ~{CS} (in) "Chip Select. Active low logic input. This input provides the dual function of initiating a conversion on the AD7453 and framing the serial data transfer.", 5 GND (power) "Analog Ground. Ground reference point for all circuitry on the AD7453. All analog input signals and any external reference signal should be referred to this GND voltage.", 6 VIN- (in) "Inverting Input. This pin sets the ground reference point for the VIN+ input. Connect to ground or to a dc offset to provide a pseudo ground.", 7 VIN+ (in) "Noninverting Analog Input.", 8 VREF (in) "Reference Input for the AD7453. An external reference in the range 100 mV to VDD must be applied to this input. The specified reference input is 2.5 V. This pin should be decoupled to GND with a capacitor of at least 0.1 uF."

## AD7453BRTZ-REEL7
designator U?
Single 12-Bit Analog-to-Digital Converter with Serial, SPI Interface, 555KSPS, -40 to +85 degC, RJ-8, Pb-Free, Reel; Part Number: AD7453; Manufacturer: Analog Devices; Resolution (Bits): 12; Channels: 1; Throughput Rate (SPS): 555K; Interface: Ser, SPI; DatasheetVersion: Rev.B; PackageVersion: 121608-A; PackageReference: RJ-8; PackageDescription: 8-Lead Thin Small Outline Transistor Package [SOT-23]; RoHS: Y; Packing: Reel; Mounting Technology: Surface Mount; Code_JEDEC: MO-178-BA; ComponentLink1Description: Manufacturer URL; ComponentLink1URL: http://www.analog.com/en/index.html; ComponentLink2Description: Datasheet; ComponentLink2URL: http://www.analog.com/static/imported-files/data_sheets/AD7453.pdf; ComponentLink3Description: Package Specification; ComponentLink3URL: http://www.analog.com/static/imported-files/packages/PKG_PDF/SOT-23(RJ)/RJ_8.pdf; ComponentLink4Description: Product URL; ComponentLink4URL: http://www.analog.com/en/analog-to-digital-converters/ad-converters/ad7453/products/product.html
footprint RJ-8_N (SOP, 8-Leads, Body 2.9x1.6mm, Pitch 0.65mm, IPC Medium Density)
footprint RJ-8_L (SOP, 8-Leads, Body 2.9x1.6mm, Pitch 0.65mm, IPC High Density)
footprint RJ-8_M (SOP, 8-Leads, Body 2.9x1.6mm, Pitch 0.65mm, IPC Low Density)
pins: 1 VDD (power) "Power Supply Input. VDD is 2.7 V to 5.25 V. This supply should be decoupled to GND with a 0.1 uF capacitor and a 10 uF tantalum capacitor.", 2 SCLK (in) "Serial Clock. Logic input. SCLK provides the serial clock for accessing data from the part. This clock input is also used as the clock source for the conversion process.", 3 SDATA (hiz) "Serial Data. Logic output. The conversion result from the AD7453 is provided on this output as a serial data stream. The bits are clocked out on the falling edge of the SCLK input. The data stream of the AD7453 consists of (See Datasheet)", 4 ~{CS} (in) "Chip Select. Active low logic input. This input provides the dual function of initiating a conversion on the AD7453 and framing the serial data transfer.", 5 GND (power) "Analog Ground. Ground reference point for all circuitry on the AD7453. All analog input signals and any external reference signal should be referred to this GND voltage.", 6 VIN- (in) "Inverting Input. This pin sets the ground reference point for the VIN+ input. Connect to ground or to a dc offset to provide a pseudo ground.", 7 VIN+ (in) "Noninverting Analog Input.", 8 VREF (in) "Reference Input for the AD7453. An external reference in the range 100 mV to VDD must be applied to this input. The specified reference input is 2.5 V. This pin should be decoupled to GND with a capacitor of at least 0.1 uF."

## AD7457BRTZ-REEL7
designator U?
Single 12-Bit Low Power Analog-to-Digital Converter with Serial, SPI Interface, 100KSPS, -40 to +85 degC, RJ-8, Pb-Free, Reel; Part Number: AD7457; Manufacturer: Analog Devices; Resolution (Bits): 12; Channels: 1; Throughput Rate (SPS): 100K; Interface: Ser, SPI; DatasheetVersion: Rev.A; PackageVersion: 121608-A; PackageReference: RJ-8; PackageDescription: 8-Lead Thin Small Outline Transistor Package [SOT-23]; RoHS: Y; Packing: Reel; Mounting Technology: Surface Mount; Code_JEDEC: MO-178-BA; ComponentLink1Description: Manufacturer URL; ComponentLink1URL: http://www.analog.com/en/index.html; ComponentLink2Description: Datasheet; ComponentLink2URL: http://www.analog.com/static/imported-files/data_sheets/AD7457.pdf; ComponentLink3Description: Package Specification; ComponentLink3URL: http://www.analog.com/static/imported-files/packages/PKG_PDF/SOT-23(RJ)/RJ_8.pdf; ComponentLink4Description: Product URL; ComponentLink4URL: http://www.analog.com/en/analog-to-digital-converters/ad-converters/ad7457/products/product.html
footprint RJ-8_N (SOP, 8-Leads, Body 2.9x1.6mm, Pitch 0.65mm, IPC Medium Density)
footprint RJ-8_L (SOP, 8-Leads, Body 2.9x1.6mm, Pitch 0.65mm, IPC High Density)
footprint RJ-8_M (SOP, 8-Leads, Body 2.9x1.6mm, Pitch 0.65mm, IPC Low Density)
pins: 1 VDD (power) "Power Supply Input. VDD is 2.7 V to 5.25 V. This supply should be decoupled to GND with a 0.1 uF capacitor and a 10 uF tantalum capacitor.", 2 SCLK (in) "Serial Clock. Logic input. SCLK provides the serial clock for accessing data from the part. This clock input is also used as the clock source for the conversion process.", 3 SDATA (hiz) "Serial Data. Logic output. The conversion result from the AD7457 is provided on this output as a serial data stream. The bits are clocked out on the falling edge of the SCLK input. The data stream of the AD7457 consists of (See Datasheet)", 4 ~{CS} (in) "Chip Select. This input provides the dual function of powering up the device and initiating a conversion on the AD7457.", 5 GND (power) "Analog Ground. Ground reference point for all circuitry on the AD7457. All analog input signals and any external reference signal should be referred to this GND voltage.", 6 VIN- (in) "Inverting Input. This pin sets the ground reference point for the VIN+ input. Connect to ground or to a dc offset to provide a pseudo ground.", 7 VIN+ (in) "Noninverting Analog Input.", 8 VREF (in) "Reference Input for the AD7457. An external reference in the range 100 mV to VDD must be applied to this input. The specified reference input is 2.5 V. This pin should be decoupled to GND with a capacitor of at least 0.33 uF."

## AD7466BRM-REEL
designator U?
Single 12-Bit Analog-to-Digital Converter with Serial, SPI Interface, 200KSPS, 0 to +70 degC, RM-8, Reel; Part Number: AD7466; Manufacturer: Analog Devices; Resolution (Bits): 12; Channels: 1; Throughput Rate (SPS): 200K; Interface: Ser, SPI; DatasheetVersion: Rev.C; PackageVersion: Aug-2005; PackageReference: RM-8; PackageDescription: 8-Lead Mini Small Outline Package [MSOP]; RoHS: N; Packing: Reel; Mounting Technology: Surface Mount; Code_JEDEC: MO-187-AA; ComponentLink1Description: Manufacturer URL; ComponentLink1URL: http://www.analog.com/en/index.html; ComponentLink2Description: Datasheet; ComponentLink2URL: http://www.analog.com/static/imported-files/data_sheets/AD7466_7467_7468.pdf; ComponentLink3Description: Package Specification; ComponentLink3URL: http://www.analog.com/static/imported-files/packages/PKG_PDF/MSOP%28RM%29/RM_8.pdf; ComponentLink4Description: Product URL; ComponentLink4URL: http://www.analog.com/en/analog-to-digital-converters/ad-converters/ad7466/products/product.html
footprint RM-8_N (TSOP, 8-Leads, Body 3x3mm, Pitch 0.65mm, IPC Medium Density)
footprint RM-8_L (TSOP, 8-Leads, Body 3x3mm, Pitch 0.65mm, IPC High Density)
footprint RM-8_M (TSOP, 8-Leads, Body 3x3mm, Pitch 0.65mm, IPC Low Density)
pins: 1 ~{CS} (in) "Chip Select. Active low logic input. This input provides the dual function of initiating conversions on the devices and frames the serial data transfer.", 2 SDATA (hiz) "Data Out. Logic output. The conversion result from the AD7466/AD7467/AD7468 is provided on this  output as a serial data stream. The bits are clocked out on the falling edge of the SCLK input. The data stream from the AD7466 (See Datasheet)", 3 SCLK (in) "Serial Clock. Logic input. SCLK provides the serial clock for accessing data from the parts. This clock input is also used as the clock source for the conversion process of the parts.", 4 NC "No Connect.", 5 NC "No Connect.", 6 VIN (in) "Analog Input. Single-ended analog input channel. The input range is 0 V to VDD.", 7 GND (power) "Analog Ground. Ground reference point for all circuitry on the devices. All analog input signals should be referred to this GND voltage.", 8 VDD (power) "Power Supply Input. The VDD range for the devices is from 1.6 V to 3.6 V."

## AD7466BRMZ
designator U?
Single 12-Bit Analog-to-Digital Converter with Serial, SPI Interface, 200KSPS, 0 to +70 degC, RM-8, Pb-Free, Tube; Part Number: AD7466; Manufacturer: Analog Devices; Resolution (Bits): 12; Channels: 1; Throughput Rate (SPS): 200K; Interface: Ser, SPI; DatasheetVersion: Rev.C; PackageVersion: Aug-2005; PackageReference: RM-8; PackageDescription: 8-Lead Mini Small Outline Package [MSOP]; RoHS: Y; Packing: Tube; Mounting Technology: Surface Mount; Code_JEDEC: MO-187-AA; ComponentLink1Description: Manufacturer URL; ComponentLink1URL: http://www.analog.com/en/index.html; ComponentLink2Description: Datasheet; ComponentLink2URL: http://www.analog.com/static/imported-files/data_sheets/AD7466_7467_7468.pdf; ComponentLink3Description: Package Specification; ComponentLink3URL: http://www.analog.com/static/imported-files/packages/PKG_PDF/MSOP%28RM%29/RM_8.pdf; ComponentLink4Description: Product URL; ComponentLink4URL: http://www.analog.com/en/analog-to-digital-converters/ad-converters/ad7466/products/product.html
footprint RM-8_N (TSOP, 8-Leads, Body 3x3mm, Pitch 0.65mm, IPC Medium Density)
footprint RM-8_L (TSOP, 8-Leads, Body 3x3mm, Pitch 0.65mm, IPC High Density)
footprint RM-8_M (TSOP, 8-Leads, Body 3x3mm, Pitch 0.65mm, IPC Low Density)
pins: 1 ~{CS} (in) "Chip Select. Active low logic input. This input provides the dual function of initiating conversions on the devices and frames the serial data transfer.", 2 SDATA (hiz) "Data Out. Logic output. The conversion result from the AD7466/AD7467/AD7468 is provided on this  output as a serial data stream. The bits are clocked out on the falling edge of the SCLK input. The data stream from the AD7466 (See Datasheet)", 3 SCLK (in) "Serial Clock. Logic input. SCLK provides the serial clock for accessing data from the parts. This clock input is also used as the clock source for the conversion process of the parts.", 4 NC "No Connect.", 5 NC "No Connect.", 6 VIN (in) "Analog Input. Single-ended analog input channel. The input range is 0 V to VDD.", 7 GND (power) "Analog Ground. Ground reference point for all circuitry on the devices. All analog input signals should be referred to this GND voltage.", 8 VDD (power) "Power Supply Input. The VDD range for the devices is from 1.6 V to 3.6 V."